# Altium footprint library Components.PcbLib: 27 footprints (part 1 of 2)
Each footprint in its own frame and in the unit in brackets; x right, y up, seen from the top. Pads: shape width x height; smd on the part's side, far side on the other; paste and mask are expansions set on the pad; w line width, h text height; cw(c..) or ccw(c..) is an arc to the next point about the centre after c.
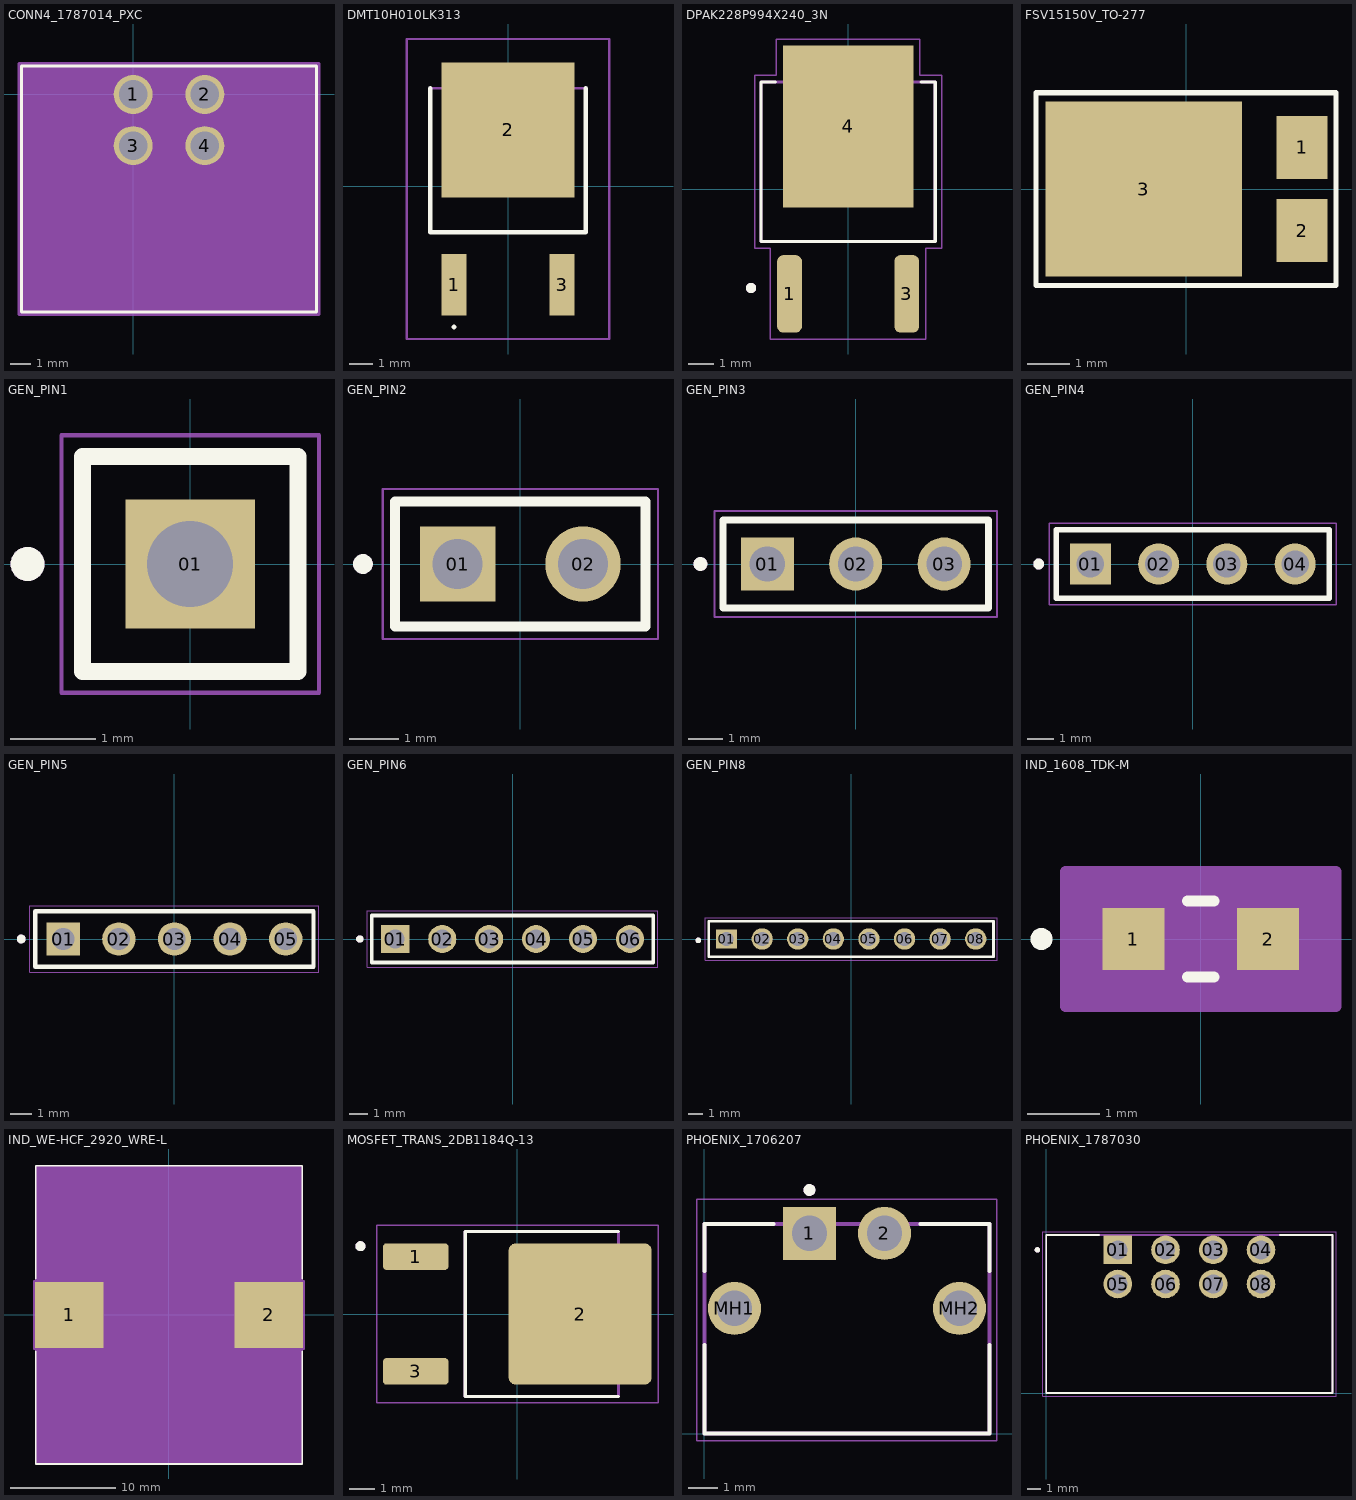
[diagram p0: the footprints below, top view; thin cyan lines are the x and y axes]

## CONN4_1787014_PXC [mil]
pads (4):
  round 75 / inner round 60 / far side round 75 hole 55 paste-99999 mask+0: 1(0,0) 2(137.8,0) 3(0,-98.43) 4(137.8,-98.43)
Top Overlay:
  lines w6: -214.6,-418.39 352.4,-418.39 352.4,54.61 -214.6,54.61 -214.6,-418.39
Mechanical 13:
  lines w1: -209.6,-413.39 347.4,-413.39 347.4,49.61 -209.6,49.61 -209.6,-413.39
Mechanical 15:
  region: 357.4,59.61 -219.6,59.61 -219.6,-423.39 357.4,-423.39
  lines w6: -219.6,-423.39 -219.6,59.61 357.4,59.61 357.4,-423.39 -219.6,-423.39
3D body "1787014.step": height 425.2, standoff -78.69, extent -206.69,-413.39 344.49,43.31

## DMT10H010LK313 [mm]
pads (3):
  rect 1.06x2.6 smd: 1(-2.286,-4.16) 3(2.286,-4.16)
  rect 5.632x5.7 smd: 2(0,2.39)
Top Overlay:
  lines w0.1: -2.286,-6 cw(c-2.286,-5.95) -2.286,-5.9 cw(c-2.286,-5.95) -2.286,-6
  lines w0.2: -3.29,4.16 -3.29,-1.94 3.29,-1.94 3.29,4.16
Mechanical 15:
  lines w0.1: -3.29,-1.94 -3.29,4.16 3.29,4.16 3.29,-1.94 -3.29,-1.94
Bottom Assembly:
  lines w0.1: -4.29,-6.46 -4.29,6.24 4.29,6.24 4.29,-6.46 -4.29,-6.46
3D body "DMT10H010LK3-13.stp": height 2.29, standoff -0.09, extent -3.29,-4.946 3.291,4.975

## DPAK228P994X240_3N [mm]
pads (3):
  rrect50% 0.97x3.02 smd: 1(-2.286,-4.09) 3(2.286,-4.09)
  rect 5.09x6.32 smd paste-4: 4(0,2.44)
Top Overlay:
  circle w0.2: c-3.786,-3.861 r0.1
  lines w0.127: -2.846,4.176 -3.4,4.176 -3.4,-2.044 3.4,-2.044 3.4,4.176 2.846,4.176
Top Paste:
  region: 2.13,1.66 0.41,1.66 0.41,3.22 2.13,3.22
  region: -0.41,1.66 -2.13,1.66 -2.13,3.22 -0.41,3.22
  region: 2.13,3.77 0.41,3.77 0.41,5.33 2.13,5.33
  region: -0.41,3.77 -2.13,3.77 -2.13,5.33 -0.41,5.33
  region: 2.13,-0.45 0.41,-0.45 0.41,1.11 2.13,1.11
  region: -0.41,-0.45 -2.13,-0.45 -2.13,1.11 -0.41,1.11
Mechanical 13:
  circle w0.2: c-3.786,-3.861 r0.1
  lines w0.127: -3.4,-2.044 3.4,-2.044 3.4,4.176 -3.4,4.176 -3.4,-2.044
Mechanical 15:
  lines w0.05: -3.65,-2.32 -3.03,-2.32 -3.03,-5.85 3.03,-5.85 3.03,-2.32 3.65,-2.32 3.65,4.43 2.8,4.43 2.8,5.85 -2.8,5.85 -2.8,4.43 -3.65,4.43 -3.65,-2.32
3D body "AOD417--3DModel-STEP-56544.STEP": height 2.41, standoff -0.19, extent -3.302,-4.969 3.302,5.064

## FSV15150V_TO-277 [mm]
pads (3):
  rect 1.2x1.5 smd: 1(2.75,0.985) 2(2.75,-0.985)
  rect 4.65x4.15 smd: 3(-1,0)
Top Overlay:
  lines w0.127: -3.556,-2.286 3.556,-2.286 3.556,2.286 -3.556,2.286 -3.556,-2.286
3D body "step_temp.STEP": height 1.2, standoff 0, extent -3.25,-2.22 3.25,2.22

## GEN_PIN1 [mil] "Generic 40 mils drill size, 100 mils step"
pads (1):
  rect 60x60 / inner round 60 / far side rect 60x60 hole 40: 01(0,0)
Top Overlay:
  circle w7.87: c-75.59,0 r3.94
  lines w7.87: -50,-50 -50,50 50,50 50,-50 -50,-50
Mechanical 13:
  circle w7.87: c-75.59,0 r3.94
  lines w3.94: -50,-50 -50,50 ; -50,-50 50,-50 ; -50,-50 -50,50 ; -50,50 50,50 ; -50,50 50,50 ; 50,-50 50,50 ; 50,-50 50,50
Mechanical 15:
  lines w1.97: -59.84,-59.84 -59.84,59.84 59.84,59.84 59.84,-59.84 -59.84,-59.84
3D body "Download_STP_61300111121+(rev1).stp": height 337.4, standoff -116.93, extent -50,-50 50,50

## GEN_PIN2 [mil] "Generic 40 mils drill size, 100 mils step"
pads (2):
  rect 60x60 / inner round 60 / far side rect 60x60 hole 40: 01(-50,0)
  round 60 hole 40: 02(50,0)
Top Overlay:
  circle w7.87: c-125.59,0 r3.94
  lines w7.87: -100,-50 -100,50 100,50 100,-50 -100,-50
Mechanical 13:
  circle w7.87: c-125.59,0 r3.94
  lines w3.94: -100,-50 -100,50 ; -100,-50 100,-50 ; -100,-50 -100,50 ; -100,50 100,50 ; -100,50 100,50 ; 100,-50 100,50 ; 100,-50 100,50
Mechanical 15:
  lines w1.97: -109.84,-59.84 -109.84,59.84 109.84,59.84 109.84,-59.84 -109.84,-59.84
3D body "Download_STP_61300211121+(rev1).stp": height 337.4, standoff -116.93, extent -100,-50 100,50

## GEN_PIN3 [mil] "Generic 40 mils drill size, 100 mils step"
pads (3):
  rect 60x60 / inner round 60 / far side rect 60x60 hole 40: 01(-100,0)
  round 60 hole 40: 02(0,0) 03(100,0)
Top Overlay:
  circle w7.87: c-175.59,0 r3.94
  lines w7.87: -150,-50 -150,50 150,50 150,-50 -150,-50
Mechanical 13:
  circle w7.87: c-175.59,0 r3.94
  lines w3.94: -150,-50 -150,50 ; -150,-50 150,-50 ; -150,-50 -150,50 ; -150,50 150,50 ; -150,50 150,50 ; 150,-50 150,50 ; 150,-50 150,50
Mechanical 15:
  lines w1.97: -159.84,-59.84 -159.84,59.84 159.84,59.84 159.84,-59.84 -159.84,-59.84
3D body "Download_STP_61300311121+(rev1).stp": height 337.4, standoff -116.93, extent -150,-50 150,50

## GEN_PIN4 [mil] "Generic 40 mils drill size, 100 mils step"
pads (4):
  rect 60x60 hole 40: 01(-150,0)
  round 60 hole 40: 02(-50,0) 03(50,0) 04(150,0)
Top Overlay:
  circle w7.87: c-225.59,0 r3.94
  lines w7.87: -200,-50 -200,50 200,50 200,-50 -200,-50
Mechanical 13:
  circle w7.87: c-225.59,0 r3.94
  lines w3.94: -200,-50 -200,50 ; -200,-50 200,-50 ; -200,-50 -200,50 ; -200,50 200,50 ; -200,50 200,50 ; 200,-50 200,50 ; 200,-50 200,50
Mechanical 15:
  lines w1.97: -209.84,-59.84 -209.84,59.84 209.84,59.84 209.84,-59.84 -209.84,-59.84
3D body "Download_STP_61300411121+(rev1).stp": height 337.4, standoff -116.93, extent -200,-50 200,50

## GEN_PIN5 [mil] "Generic 40 mils drill size, 100 mils step"
pads (5):
  rect 60x60 hole 40: 01(-200,0)
  round 60 hole 40: 02(-100,0) 03(0,0) 04(100,0) 05(200,0)
Top Overlay:
  circle w7.87: c-275.59,0 r3.94
  lines w7.87: -250,-50 250,-50 250,50 -250,50 -250,-50
Mechanical 13:
  circle w7.87: c-275.59,0 r3.94
  lines w3.94: -250,-50 -250,50 ; -250,-50 250,-50 ; -250,-50 -250,50 ; -250,50 250,50 ; -250,50 250,50 ; 250,-50 250,50 ; 250,-50 250,50
Mechanical 15:
  lines w1.97: -259.84,-59.84 259.84,-59.84 259.84,59.84 -259.84,59.84 -259.84,-59.84
3D body "Download_STP_61300511121+(rev1).stp": height 337.4, standoff -116.93, extent -250,-50 250,50

## GEN_PIN6 [mil] "Generic 40 mils drill size, 100 mils step"
pads (6):
  rect 60x60 / inner round 60 / far side rect 60x60 hole 40: 01(-250,0)
  round 60 hole 40: 02(-150,0) 03(-50,0) 04(50,0) 05(150,0) 06(250,0)
Top Overlay:
  circle w7.87: c-325.59,0 r3.94
  lines w7.87: -300,-50 -300,50 300,50 300,-50 -300,-50
Mechanical 13:
  circle w7.87: c-325.59,0 r3.94
  lines w3.94: -300,-50 -300,50 ; -300,-50 300,-50 ; -300,-50 -300,50 ; -300,50 300,50 ; -300,50 300,50 ; 300,-50 300,50 ; 300,-50 300,50
Mechanical 15:
  lines w1.97: -309.84,-59.84 -309.84,59.84 309.84,59.84 309.84,-59.84 -309.84,-59.84
3D body "Download_STP_61300611121+(rev1).stp": height 337.4, standoff -116.93, extent -300,-50 300,50

## GEN_PIN8 [mil] "Generic 40 mils drill size, 100 mils step"
pads (8):
  rect 60x52 / inner oval 60x52 / far side rect 60x52 hole 40: 01(-350,0)
  round 60 hole 40: 02(-250,0) 03(-150,0) 04(-50,0) 05(50,0) 06(150,0) 07(250,0) 08(350,0)
Top Overlay:
  circle w7.87: c-429.13,-3.94 r3.94
  lines w7.87: -400,-50 -400,50 400,50 400,-50 -400,-50
Mechanical 13:
  circle w7.87: c-429.13,-3.94 r3.94
  lines w3.94: -400,-50 400,-50 400,50 -400,50 -400,-50
Mechanical 15:
  lines w1.97: -409.84,-59.84 409.84,-59.84 409.84,59.84 -409.84,59.84 -409.84,-59.84
3D body "61300811121+(rev1).stp": height 337.4, standoff -116.93, extent -400,-50 400,50

## IND_1608_TDK-M [mil]
pads (2):
  rect 33.81x33.5 smd paste+0 mask+0: 1(-36.59,0) 2(36.59,0)
Top Overlay:
  circle w6: c-86.5,0 r3
  lines w6: -7.21,-20.75 7.21,-20.75 ; -7.21,20.75 7.21,20.75
Mechanical 13:
  circle w0: c-31.59,0 r3
  lines w1: -31.5,-15.75 -31.5,15.75 ; -31.5,-15.75 31.5,-15.75 ; -31.5,-15.75 -19.68,-15.75 -19.68,15.75 -31.5,15.75 ; -31.5,-15.75 -31.5,15.75 ; -31.5,15.75 31.5,15.75 ; 31.5,-15.75 31.5,15.75 ; 31.5,-15.75 31.5,15.75 ; 31.5,-15.75 19.68,-15.75 19.68,15.75 31.5,15.75
Mechanical 15:
  region: 73.5,-36.75 -73.5,-36.75 -73.5,36.75 73.5,36.75
  lines w6: -73.5,-36.75 73.5,-36.75 73.5,36.75 -73.5,36.75 -73.5,-36.75
3D body "IND_1608_TDK.step": height 31.5, standoff 0, extent -31.5,-15.75 31.5,15.75

## IND_WE-HCF_2920_WRE-L [mil]
pads (2):
  rect 256x246 smd paste+0 mask+0: 1(-372,0) 2(372,0)
Top Overlay:
  lines w6: -497,-136.1 -497,-556 497,-556 497,-136.1 ; -497,136.1 -497,556 497,556 497,136.1
Mechanical 13:
  circle w0: c-244,0 r3
  lines w0: -12,551 ccw(c0,551) 12,551
  lines w1: -492,-551 -492,551 492,551 492,-551 -492,-551
Mechanical 15:
  region: -496,-127 -504,-127 -504,127 -496,127 -496,555 496,555 496,127 504,127 504,-127 496,-127 496,-555 -496,-555
  lines w6: -504,-127 -496,-127 -496,-555 496,-555 496,-127 504,-127 504,127 496,127 496,555 -496,555 -496,127 -504,127 -504,-127
3D body "IND_WE-HCF_2920_WRE.step": height 807.09, standoff 0, extent -492.01,-550.98 492.01,550.98

## MOSFET_TRANS_2DB1184Q-13 [mm]
pads (3):
  rrect25% 2.6x1.06 smd: 1(-4.05,2.286) 3(-4.05,-2.286)
  rrect10% 5.7x5.632 smd paste-4: 2(2.5,0)
Top Overlay:
  circle w0.2: c-6.25,2.7 r0.1
  lines w0.127: 4.025,-3.29 -2.075,-3.29 -2.075,3.29 4.025,3.29
Top Paste:
  region: 5.075,-2.53 3.725,-2.53 3.725,-1.21 5.075,-1.21
  region: 1.275,-2.53 -0.075,-2.53 -0.075,-1.21 1.275,-1.21
  region: 3.175,-2.53 1.825,-2.53 1.825,-1.21 3.175,-1.21
  region: 5.075,1.21 3.725,1.21 3.725,2.53 5.075,2.53
  region: 1.275,1.21 -0.075,1.21 -0.075,2.53 1.275,2.53
  region: 3.175,1.21 1.825,1.21 1.825,2.53 3.175,2.53
  region: 5.075,-0.66 3.725,-0.66 3.725,0.66 5.075,0.66
  region: 1.275,-0.66 -0.075,-0.66 -0.075,0.66 1.275,0.66
  region: 3.175,-0.66 1.825,-0.66 1.825,0.66 3.175,0.66
Mechanical 13:
  circle w0.2: c-6.25,2.7 r0.1
  lines w0.127: -2.075,-3.29 4.025,-3.29 4.025,3.29 -2.075,3.29 -2.075,-3.29
Mechanical 15:
  lines w0.05: -5.6,-3.54 5.6,-3.54 5.6,3.54 -5.6,3.54 -5.6,-3.54
3D body "DMT10H010LK3-13.stp": height 2.29, standoff -0.09, extent -4.871,-3.291 5.05,3.29

## PHOENIX_1706207 [mm]
height 4.95
pads (4):
  rect 1.8x1.8 / inner round 1.8 / far side rect 1.8x1.8 hole 1.2: 1(3.56,6.78)
  round 1.8 hole 1.2: 2(6.1,6.78) MH1(1.02,4.24) MH2(8.64,4.24)
Top Overlay:
  circle w0.2: c3.56,8.25 r0.1
  lines w0.127: 0,3 0,0 9.66,0 9.66,3 ; 0,5.5 0,7.1 2.34,7.1 ; 7.32,7.1 9.66,7.1 9.66,5.5
Mechanical 13:
  circle w0.2: c3.56,8.25 r0.1
  lines w0.127: 0,0 0,7.1 9.66,7.1 9.66,0 0,0
Mechanical 15:
  lines w0.05: -0.25,-0.25 9.91,-0.25 9.91,7.93 -0.25,7.93 -0.25,-0.25
3D body "1706207.stp": height 4.85, standoff -2, extent 0.04,0 9.71,7.376

## PHOENIX_1787030 [mm]
pads (8):
  rect 2.1x2.1 / inner round 2.1 / far side rect 2.1x2.1 hole 1.4: 01(5.25,10.5)
  round 2.1 hole 1.4: 02(8.75,10.5) 03(12.25,10.5) 04(15.75,10.5) 05(5.25,8) 06(8.75,8) 07(12.25,8) 08(15.75,8)
Top Overlay:
  circle w0.2: c-0.65,10.5 r0.1
  lines w0.127: 3.88,11.6 0,11.6 0,0 21,0 21,11.6 17.12,11.6
Mechanical 13:
  circle w0.2: c-0.65,10.5 r0.1
  lines w0.127: 0,0 21,0 21,11.6 0,11.6 0,0
Mechanical 15:
  lines w0.05: -0.25,-0.25 21.25,-0.25 21.25,11.85 -0.25,11.85 -0.25,-0.25
3D body "1787030.step": height 10.83, standoff -2, extent 0.025,-0.05 21.025,11.55